# EAGLE library part ATTINY45/85 (library Webmaster442)
ATTiny45/85 DIL package with Arduno style names
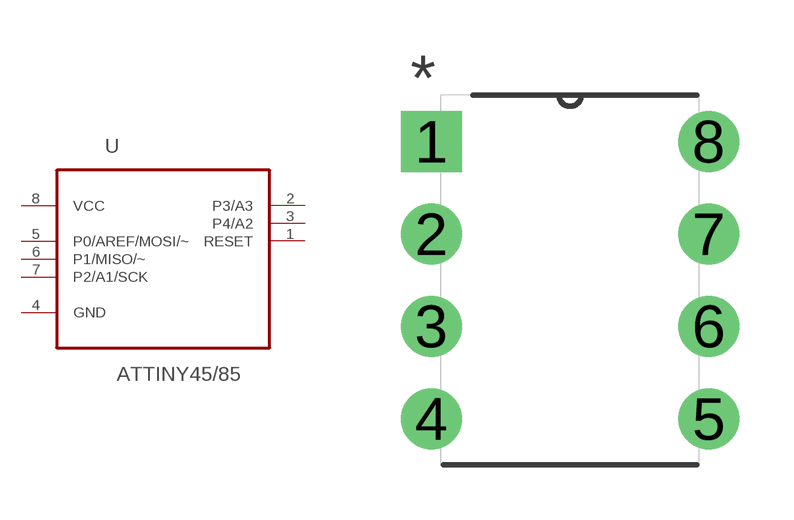
[diagram p4: symbol with the pads of DIP254P762X533-8; footprint DIP254P762X533-8]

Designator prefix U

## ATTINY45/85 (MPN: ATTINY45-20PU; OC_FARNELL: 1288352; OC_NEWARK: 23M5072; PACKAGE: PDIP-8; SUPPLIER: Atmel)  [DIP254P762X533-8]
1  RESET
2  P3/A3
3  P4/A2
4  GND  pas
5  P0/AREF/MOSI/~
6  P1/MISO/~
7  P2/A1/SCK
8  VCC  pwr

## Footprint DIP254P762X533-8 (pad centres in mm)
drill 1.118 square: 1 -7.62,7.62
drill 1.118: 2 -7.62,5.08; 3 -7.62,2.54; 4 -7.62,0; 5 0,0; 6 0,2.54; 7 0,5.08; 8 0,7.62